# EAGLE library part BM09B-GHS-TBT (library con-jst)
9 Position, Top entry, Shrouded Connector
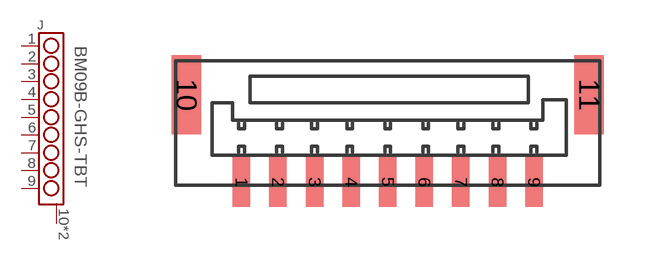
[diagram p1: symbol with the pads of BM09B-GHS-TBT; footprint BM09B-GHS-TBT]

Designator prefix J

## BM09B-GHS-TBT (DIGIKEY: 455-1585-1-ND; MFR: JST America; MPN: BM09B-GHS-TBT)  [BM09B-GHS-TBT]
1  P$1
2  P$2
3  P$3
4  P$4
5  P$5
6  P$6
7  P$7
8  P$8
9  P$9
10  P$10
11  P$10

## Footprint BM09B-GHS-TBT (pad centres in mm)
smd 0.6 x 1.7: 1 -5,-2.21; 2 -3.75,-2.21; 3 -2.5,-2.21; 4 -1.25,-2.21; 5 0,-2.21; 6 1.25,-2.21; 7 2.5,-2.21; 8 3.75,-2.21; 9 5,-2.21
smd 1 x 2.7: 10 -6.88,0.76; 11 6.88,0.76